# Altium integrated library CRYSTAL.IntLib: 2 symbols
Pins are listed as number, name and electrical type; pins without a type are passive.

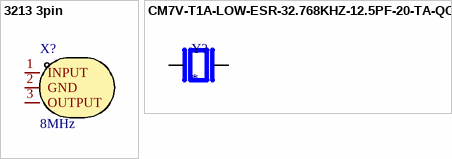
[diagram p0: symbols 3213 3pin to CM7V-T1A-LOW-ESR-32.768KHZ-12.5PF-20-TA-QC]

## 3213 3pin
designator X?, comment 8MHz
频率:24MHz;频率公差:±0.07%;频率稳定度:-;; Manufacturer: muRata(村田); Symbol: CSTNE8M00GH5L000R0; Add into BOM: yes; Frequency Tolerance: ±0.07%; Device: CSTNE8M00GH5L000R0; LCSC Part Name: 8MHz ±0.07%; Supplier Part: C882602; Manufacturer Part: CSTNE8M00GH5L000R0; Supplier Footprint: SMD3213-3P; JLCPCB Part Class: Extended Part; Datasheet: https://atta.szlcsc.com/upload/public/pdf/source/20210726/C882602_740E1448EDBB3C55C7DDB16518B64D07.pdf; Supplier: LCSC; Convert to PCB: yes; Value: 8MHz; Frequency Stability: -; Operating Temperature: -40℃~+85℃; Name: 8MHz
footprint OSC-SMD_3P-L3.2-W1.3-P1.20-L
pins: 1 INPUT, 2 GND, 3 OUTPUT

## CM7V-T1A-LOW-ESR-32.768KHZ-12.5PF-20-TA-QC
designator Y?
MF: {'manufacturer': u'Micro Crystal'}; MP: CM7V-T1A-LOW-ESR-32.768KHZ-12.5PF-20-TA-QC; Package: None; Price: None; Value: *; Availability: Unavailable
footprint XTAL_CM7V-T1A-LOW-ESR-32.768KHZ-12.5PF-20-TA-QC
pins: 1, 2